# Altium schematic symbol library DC-DC电源芯片.SchLib: 2 symbols
Pins are listed as number, name and electrical type; pins without a type are passive.

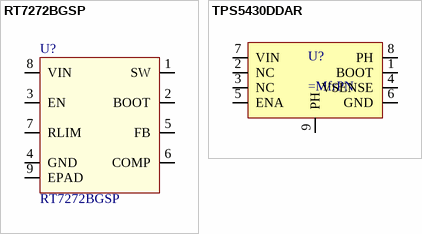
[diagram p0: symbols RT7272BGSP to TPS5430DDAR]

## RT7272BGSP
designator U?
pins: 1 SW, 2 BOOT, 3 EN, 4 GND, 5 FB, 6 COMP, 7 RLIM, 8 VIN, 9 EPAD

## TPS5430DDAR
designator U?
pins: 1 BOOT, 2 NC, 3 NC, 4 VSENSE, 5 ENA, 6 GND, 7 VIN, 8 PH, 9 PH